# Altium schematic symbol library AX88178.Schlib: 1 symbol
Pins are listed as number, name and electrical type; pins without a type are passive.

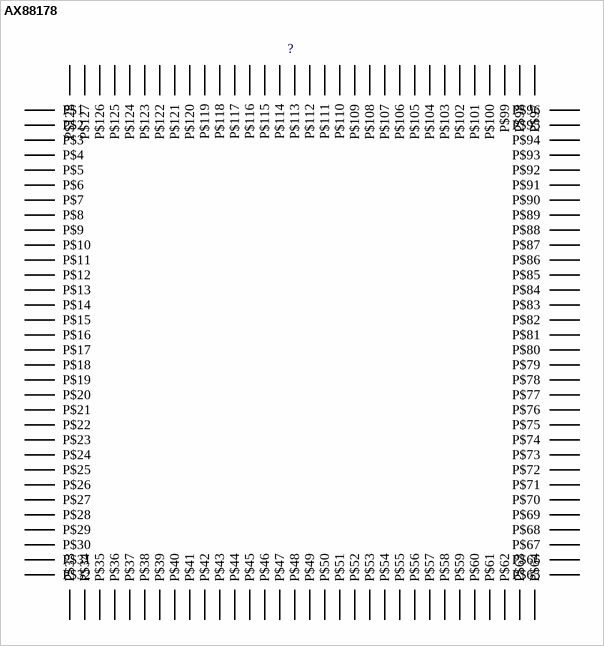
[diagram p0: symbol AX88178]

## AX88178
designator ?
footprint QFP128_SOT320-2
pins: AGND P$29, AGND1 P$33, AGND4 P$38, AGND5 P$50, AGND6 P$54, AGND7 P$55, AGND9 P$60, AGND10 P$63, AGND15 P$67, AGND16 P$69, AVDD3 P$28, AVDD3.1 P$37, AVDD3.2 P$39, AVDDK P$49, AVDDK2 P$53, AVDDK4 P$57, AVDDK9 P$64, AVDDK14 P$66, AVDDK16 P$68, CLK60EXT P$45, CLKSEL P$46, COL P$116, CRS P$115, DB P$65, DM P$31, DMRS P$35, DP P$32, DPRS P$36, EECK P$4, EECS P$5, EEDI P$6, EEDO P$9, EXTWAKEUP_N P$11, FORCEFS_N P$15, GND P$7, GND1 P$17, GND2 P$18, GND3 P$25, GND4 P$40, GND12 P$74, GND13 P$81, GND15 P$87, GND16 P$98, GND17 P$100, GND21 P$75, GND23 P$124, GND24 P$127, GNDAH P$23, GPIO0 P$3, GPIO1 P$2, GPIO2 P$1, GTX_CLK P$91, HS_TEST_MODE P$42, INT_REGULATOR_EN P$20, LED P$125, MDC P$121, MDINT P$117, MDIO P$120, NC P$47, NC1 P$14, NC2 P$48, NC3 P$51, NC4 P$52, NC7 P$58, NC8 P$59, NC9 P$61, NC10 P$56, NC11 P$62, NC17 P$71, NC18 P$72, NC19 P$92, NC20 P$93, NC21 P$94, NC22 P$73, NC23 P$96, NC24 P$70, NC25 P$95, NC26 P$119, PHYRST_N P$122, RESET_N P$12, RGMII_EN P$103, RPU P$34, RREF P$30, RX_CLK P$104, RX_DV P$105, RX_ER P$106, RXD0 P$107, RXD1 P$108, RXD2 P$109, RXD3 P$110, RXD4 P$111, RXD5 P$112, RXD6 P$113, RXD7 P$114, SCAN_ENABLE P$44, SCAN_TEST P$43, TESTSPEEDUP P$13, TX_CLK P$102, TX_EN P$89, TX_ER P$88, TXC P$90, TXD0 P$85, TXD1 P$84, TXD2 P$83, TXD3 P$82, TXD4 P$79, TXD5 P$78, TXD6 P$77, TXD7 P$76, USB_SPEED_LED P$126, V25 P$21, VBUS P$10, VDD2.3 P$123, VDD2.7 P$80, VDD2.8 P$86, VDD3 P$8, VDD3.1 P$19, VDD3.3 P$41, VDD3.4 P$97, VDD3.5 P$128, VDDAH P$22, VDDK P$16, VDDK1 P$24, VDDK11 P$99, VDDK14 P$118, XIN12M P$101, XIN125M P$26, XOUT12M P$27